# EAGLE library part 82DBS02163C-70L (library dslparts)
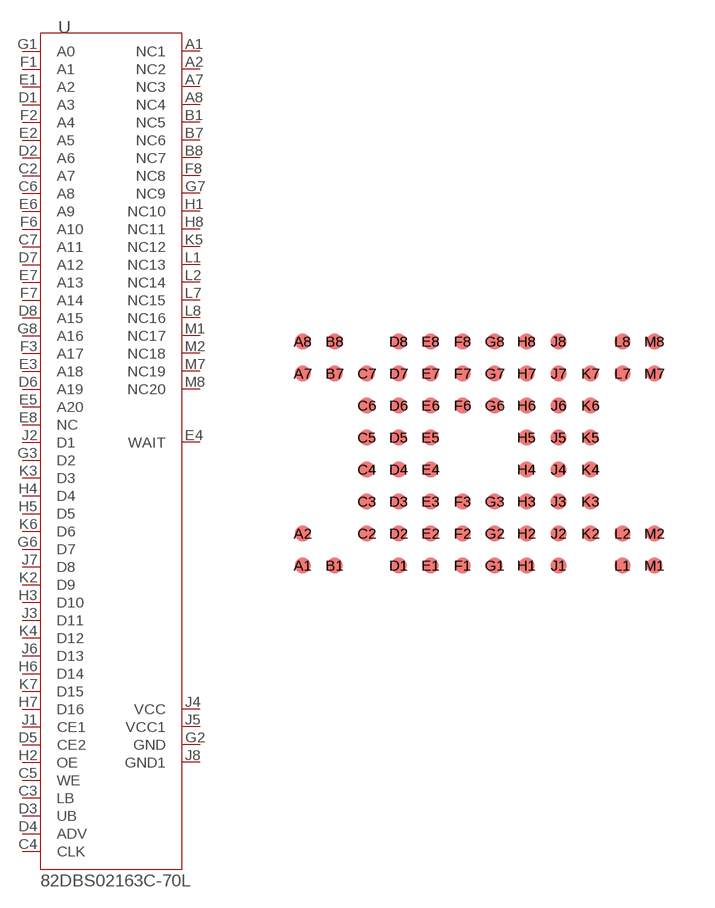
[diagram p4: symbol with the pads of RAM; footprint RAM]

Designator prefix -

## 82DBS02163C-70L  [RAM]
A1  NC1
A2  NC2
A7  NC3
A8  NC4
B1  NC5
B7  NC6
B8  NC7
C2  A7
C3  LB
C4  CLK
C5  WE
C6  A8
C7  A11
D1  A3
D2  A6
D3  UB
D4  ADV
D5  CE2
D6  A19
D7  A12
D8  A15
E1  A2
E2  A5
E3  A18
E4  WAIT
E5  A20
E6  A9
E7  A13
E8  NC
F1  A1
F2  A4
F3  A17
F6  A10
F7  A14
F8  NC8
G1  A0
G2  GND
G3  D2
G6  D7
G7  NC9
G8  A16
H1  NC10
H2  OE
H3  D10
H4  D4
H5  D5
H6  D14
H7  D16
H8  NC11
J1  CE1
J2  D1
J3  D11
J4  VCC
J5  VCC1
J6  D13
J7  D8
J8  GND1
K2  D9
K3  D3
K4  D12
K5  NC12
K6  D6
K7  D15
L1  NC13
L2  NC14
L7  NC15
L8  NC16
M1  NC17
M2  NC18
M7  NC19
M8  NC20

## Footprint RAM (pad centres in mm)
smd 0.4 x 0.4: A1 -4.4,-2.8; A2 -4.4,-2; A7 -4.4,2; A8 -4.4,2.8; B1 -3.6,-2.8; B7 -3.6,2; B8 -3.6,2.8; C2 -2.8,-2; C3 -2.8,-1.2; C4 -2.8,-0.4; C5 -2.8,0.4; C6 -2.8,1.2; C7 -2.8,2; D1 -2,-2.8; D2 -2,-2; D3 -2,-1.2; D4 -2,-0.4; D5 -2,0.4; D6 -2,1.2; D7 -2,2; D8 -2,2.8; E1 -1.2,-2.8; E2 -1.2,-2; E3 -1.2,-1.2; E4 -1.2,-0.4; E5 -1.2,0.4; E6 -1.2,1.2; E7 -1.2,2; E8 -1.2,2.8; F1 -0.4,-2.8; F2 -0.4,-2; F3 -0.4,-1.2; F6 -0.4,1.2; F7 -0.4,2; F8 -0.4,2.8; G1 0.4,-2.8; G2 0.4,-2; G3 0.4,-1.2; G6 0.4,1.2; G7 0.4,2; G8 0.4,2.8; H1 1.2,-2.8; H2 1.2,-2; H3 1.2,-1.2; H4 1.2,-0.4; H5 1.2,0.4; H6 1.2,1.2; H7 1.2,2; H8 1.2,2.8; J1 2,-2.8; J2 2,-2; J3 2,-1.2; J4 2,-0.4; J5 2,0.4; J6 2,1.2; J7 2,2; J8 2,2.8; K2 2.8,-2; K3 2.8,-1.2; K4 2.8,-0.4; K5 2.8,0.4; K6 2.8,1.2; K7 2.8,2; L1 3.6,-2.8; L2 3.6,-2; L7 3.6,2; L8 3.6,2.8; M1 4.4,-2.8; M2 4.4,-2; M7 4.4,2; M8 4.4,2.8